# Altium footprint library CapacitorsPoll.PcbLib: 9 footprints
Each footprint in its own frame and in the unit in brackets; x right, y up, seen from the top. Pads: shape width x height; smd on the part's side, far side on the other; paste and mask are expansions set on the pad; w line width, h text height; cw(c..) or ccw(c..) is an arc to the next point about the centre after c.
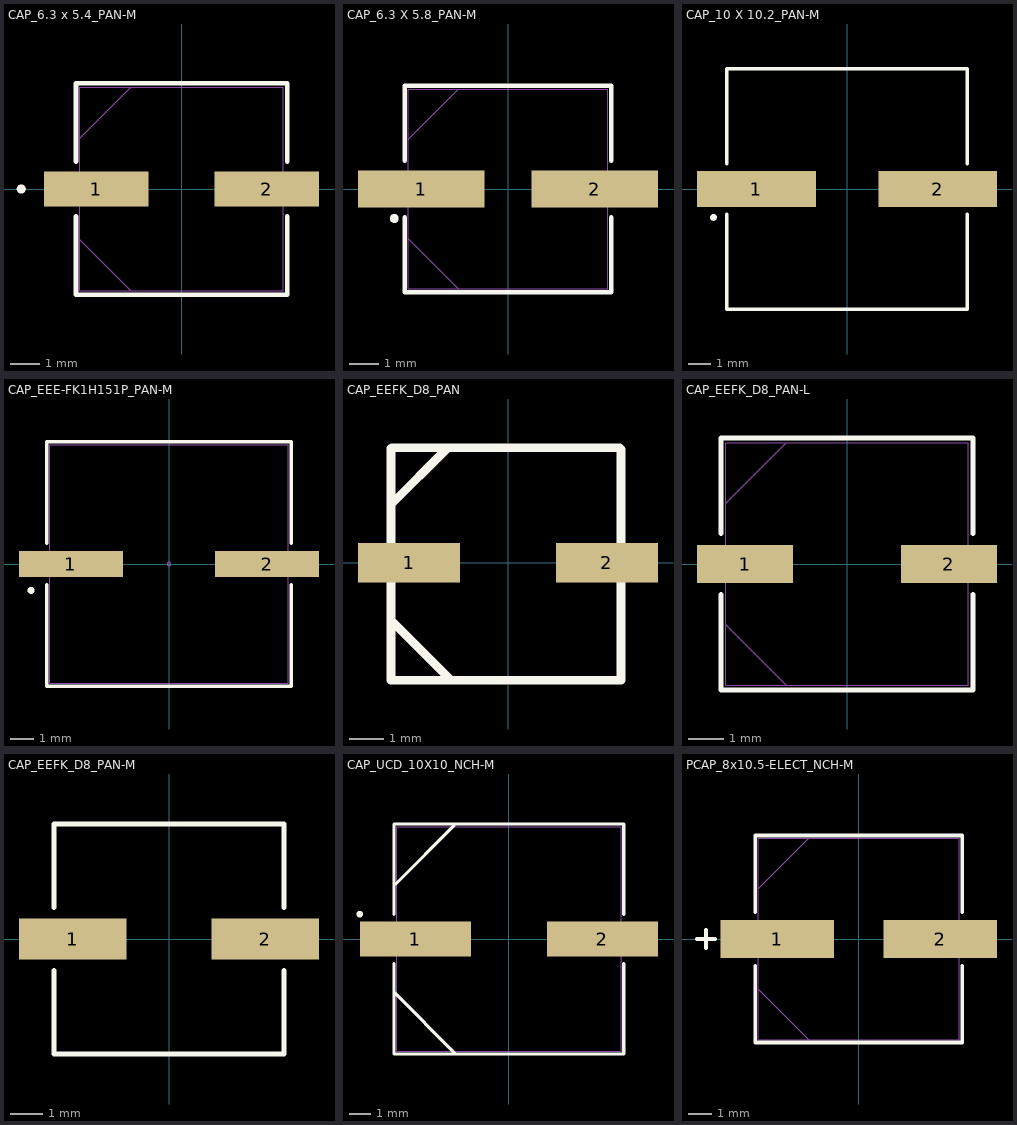
[diagram p0: the footprints below, top view; thin cyan lines are the x and y axes]

## CAP_6.3 x 5.4_PAN-M [mil]
pads (2):
  rect 137.56x45.69 smd paste+0 mask+0: 1(-112.28,0) 2(112.28,0)
Top Overlay:
  circle w6: c-211.06,0 r3
  lines w6: -139,-35.94 -139,-139 139,-139 139,-35.94 ; -139,35.94 -139,139 139,139 139,35.94
Mechanical 13:
  circle w0: c-114,0 r3
  lines w1: -134,-67 -67,-134 ; -134,67 -67,134 ; -134,-134 134,-134 134,134 -134,134 -134,-134
3D body "6.3 x 5.4.step": height 224.09, standoff 0, extent -147.69,-136.21 159.32,131.82
3D body: height 10, standoff 0, extent 0,0 10,10

## CAP_6.3 X 5.8_PAN-M [mil]
pads (2):
  rect 169.37x49 smd paste+0 mask+0: 1(-116.5,0) 2(116.5,0)
Top Overlay:
  circle w6: c-152.57,-39.54 r3
  lines w6: -138.5,-37.6 -138.5,-138.5 138.5,-138.5 138.5,-37.6 ; -138.5,37.6 -138.5,138.5 138.5,138.5 138.5,37.6
Mechanical 7:
  text "0.307in/7.798mm" at -93.75,253.5 h25
Mechanical 13:
  circle w0: c-113.5,0 r3
  lines w1: -133.5,-66.75 -66.75,-133.5 ; -133.5,66.75 -66.75,133.5 ; -133.5,-133.5 133.5,-133.5 133.5,133.5 -133.5,133.5 -133.5,-133.5
3D body "6.3 SIZE CODE D.stp": height 228.39, standoff 0, extent -147.11,-134.69 140.29,125.16
3D body: height 10, standoff 0, extent 0,0 10,10

## CAP_10 X 10.2_PAN-M [mil]
pads (2):
  rect 209x63 smd paste+0 mask+0: 1(-159.5,0) 2(159.5,0)
Top Overlay:
  circle w6: c-235,-50 r3
  lines w6: -211.5,-44.6 -211.5,-211.5 211.5,-211.5 211.5,-44.6 ; -211.5,44.6 -211.5,211.5 211.5,211.5 211.5,44.6
3D body "CAP_10X102_PAN.step": height 407.09, standoff 0, extent -235.51,-206.03 236.45,206.96

## CAP_EEE-FK1H151P_PAN-M [mil]
pads (2):
  rect 177.17x45 smd paste+0 mask+0: 1(-167,0) 2(167,0)
Top Overlay:
  circle w6: c-235,-45 r3
  lines w6: -208,-35.6 -208,-208 208,-208 208,-35.6 ; -208,35.6 -208,208 208,208 208,35.6
Mechanical 13:
  circle w0: c0,0 r3
  lines w1: -203,-203 -203,203 203,203 203,-203 -203,-203
3D body: height 10, standoff 0, extent 0,0 10,10
3D body "10 SIZE CODE G.stp": height 405.55, standoff 3.94, extent -236.56,-201.85 224.06,203.66

## CAP_EEFK_D8_PAN [mil]
pads (2):
  rect 118x46 smd paste+0 mask+0: 1(-114.5,0) 2(114.5,0)
Top Overlay:
  lines w10: -71.33,131.51 -135.28,67.56 ; -135.28,-66.45 -135.28,67.56 ; -135.28,-66.45 -65.94,-135.78 ; -135.28,-66.45 -135.28,-135.78 -65.94,-135.78 ; -135.28,67.56 -135.28,132.39 -134.53,133.14 128.92,133.14 130.69,131.38 130.69,-135.78 -65.94,-135.78
3D body "CAP_EEFK_D8_PAN.step": height 317.09, standoff 0, extent -158.45,-130.78 148.56,137.25

## CAP_EEFK_D8_PAN-L [mil]
pads (2):
  rect 106x42 smd paste+0 mask+0: 1(-112.5,0) 2(112.5,0)
Top Overlay:
  lines w6: -139,-34.1 -139,-139 139,-139 139,-34.1 ; -139,34.1 -139,139 139,139 139,34.1
Mechanical 13:
  lines w1: -134,-67 -67,-134 ; -134,67 -67,134 ; -134,-134 134,-134 134,134 -134,134 -134,-134
3D body: height 10, standoff 0, extent 0,0 10,10

## CAP_EEFK_D8_PAN-M [mil]
pads (2):
  rect 130x50 smd paste+0 mask+0: 1(-116.5,0) 2(116.5,0)
Top Overlay:
  lines w6: -139,-38.1 -139,-139 139,-139 139,-38.1 ; -139,38.1 -139,139 139,139 139,38.1
3D body: height 10, standoff 0, extent 0,0 10,10
3D body "CAP_EEFK_D8_PAN.step": height 317.09, standoff 0, extent -153.5,-129.02 153.5,139.02

## CAP_UCD_10X10_NCH-M [mil]
pads (2):
  rect 200.94x62.69 smd paste+0 mask+0: 1(-169.28,0) 2(169.28,0)
Top Overlay:
  circle w6: c-270,45 r3
  lines w0.51: -207.75,-97.59 -206.71,-97.59 ; -205.17,99.44 -205.17,103.5
  lines w5.98: -206.71,-97.59 -96.95,-207.35 ; -205.17,99.44 -98.44,206.16
  lines w6: -208,-44.44 -208,-208 208,-208 208,-44.44 ; -208,44.44 -208,208 208,208 208,44.44
Mechanical 13:
  circle w0: c-183,0 r3
  lines w1: -203,-101.5 -101.5,-203 ; -203,101.5 -101.5,203 ; -203,-203 203,-203 203,203 -203,203 -203,-203
3D body "CAP_UCD_10X10_NCH.step": height 415.12, standoff 0, extent -227.64,-210.07 217.32,195.91

## PCAP_8x10.5-ELECT_NCH-M [mil]
pads (2):
  rect 188.94x62.69 smd paste+0 mask+0: 1(-135.78,0)
  rect 188.94x62.68 smd paste+0 mask+0: 2(135.78,0)
Top Overlay:
  lines w6: -269.56,0 -239.56,0 ; -254.56,-15 -254.56,15 ; -172.5,-44.44 -172.5,-172.5 172.5,-172.5 172.5,-44.44 ; -172.5,44.44 -172.5,172.5 172.5,172.5 172.5,44.44
Mechanical 7:
  text "Alternate 2 Padstyle: b229_152h76" at -412.5,-643.66 h50
  text "0.366in/9.296mm" at -93.75,287.5 h25
Mechanical 13:
  lines w1: -269.56,0 -239.56,0 ; -254.56,-15 -254.56,15 ; -167.5,-83.75 -83.75,-167.5 ; -167.5,83.75 -83.75,167.5 ; -167.5,-167.5 167.5,-167.5 167.5,167.5 -167.5,167.5 -167.5,-167.5
3D body: height 10, standoff 0, extent 0,0 10,10
3D body "PCAP_8x10-ELECT_NCH.step": height 407.09, standoff 0, extent -189.93,-171.41 176.06,163.55